# EAGLE library part 629105150921 (library Input-Output_Connectors_rev15d)
WR-COM_USB_Micro Type AB_Horizontal_SMT ; Micro Type AB Horizontal SMT - with Pegs - T&R Packaging Code : Con_I-O_COM_USB_2.0_AB_629105150921_629105150921 <http://katalog.we-online.de/media/images/eican/Con_I-O_COM_USB_2.0_AB_629105150921_pf2.jpg> Details see: http://katalog.we-online.de/em/datasheet/629105150921.pdf Created 12/08/2014, Dan Xu 2014 (C) Wurth Elektronik
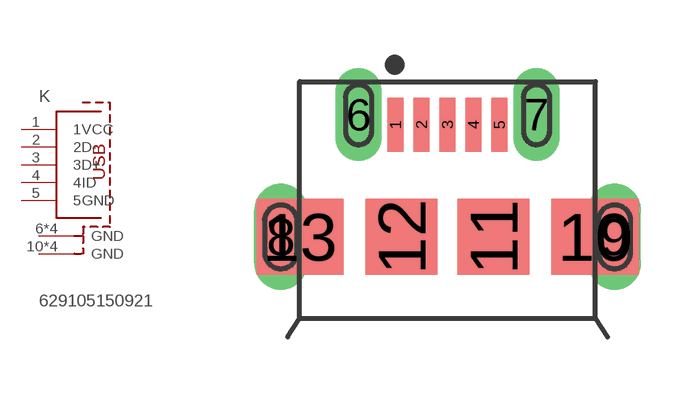
[diagram p158: symbol with the pads of 629105150921; footprint 629105150921]

Designator prefix K

## 629105150921  [629105150921]
1  1VCC  pas
2  2D-  pas
3  3D+  pas
4  4ID  pas
5  5GND  pas
6  GND
7  GND
8  GND
9  GND
10  GND
11  GND
12  GND
13  GND

## Footprint 629105150921 (pad centres in mm)
629105150921 WR-COM_USB_Micro Type AB_Horizontal_SMT Micro Type AB Horizontal SMT - with Pegs - T&R Packaging
smd 0.4 x 1.35: 1 -1.3,2.805; 2 -0.65,2.805; 3 0,2.805; 4 0.65,2.805; 5 1.3,2.805
drill 0.65 pad 1 long: 6 -2.225,3.055; 7 2.225,3.055
drill 0.82 pad 1.1 long: 8 -4.175,0; 9 4.175,0
smd 2.185 x 1.9: 10 3.692,0; 13 -3.692,0
smd 1.8 x 1.9: 11 1.15,0; 12 -1.15,0